# Altium schematic symbol library Capacitors.SchLib: 32 symbols
Pins are listed as number, name and electrical type; pins without a type are passive.

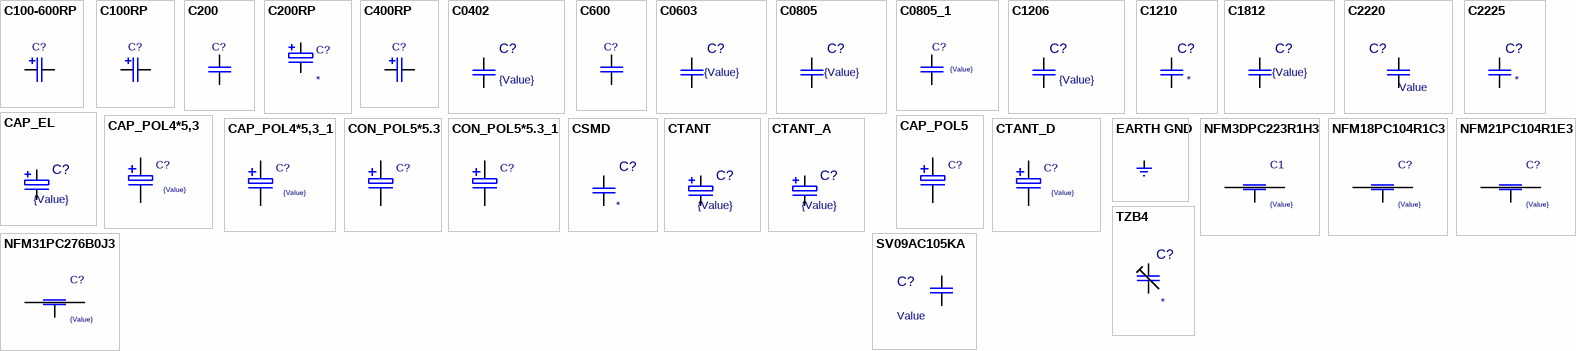
[diagram p0: symbols C100-600RP to TZB4]

## C100-600RP
designator C?  (value not drawn)
C100-600RP; Value: *
footprint C100-600RP_C100RP-1
footprint C100-600RP_C200RP
footprint C100-600RP_C300RP
footprint C100-600RP_C400RP
footprint C100-600RP_C500RP
footprint C100-600RP_C600RP
footprint C100-600RP_Primary
pins: 1, 2

## C100RP
designator C?  (value not drawn)
C100RP; PDIF_TY: 11213; Value: *
footprint C100RP_C100RP-1
footprint C100RP_Primary
pins: 1 I/OA, 2 I/OB

## C200
designator C?  (value not drawn)
C200; Value: *
footprint C200
pins: 1, 2

## C200RP
designator C?
Capacitor; Part Field 1: *; Value: *
footprint C200RP_Primary
footprint C200RP_R250
pins: 1, 2

## C400RP
designator C?  (value not drawn)
C400RP; Value: *
footprint C400RP
pins: 1, 2

## C0402
designator C?  value {Value}  (hidden comment: *)
footprint C0402
footprint C0402_V2
pins: 1, 2

## C600
designator C?  (value not drawn)
C600; Value: *
footprint C600_C400
footprint C600_Primary
pins: 1, 2

## C0603
designator C?  value {Value}  (hidden comment: *)
C0603; Voltage: *
footprint C0603
signal-integrity model capasitor (Model Description)
footprint C0603L
footprint C0603L_V2
pins: 1, 2

## C0805
designator C?  value {Value}  (hidden comment: *)
C0805; Voltage: *
footprint C0805
signal-integrity model capasitor (Model Description)
footprint C0805L
footprint C0805L_V2
pins: 1, 2

## C0805_1
designator C?  value {Value}  (hidden comment: *)
C0805_1
footprint C0805
pins: 1, 2

## C1206
designator C?  value {Value}  (hidden comment: *)
C1206
footprint C1206
pins: 1, 2

## C1210
designator C?
C1210; Part Field 1: 1210; Value: *
footprint C1210
pins: 1, 2

## C1812
designator C?  value {Value}  (hidden comment: *)
C1812; Voltage: *
footprint C1812
signal-integrity model capasitor (Model Description)
pins: 1, 2

## C2220
designator C?  (value not drawn)
Value: Value
footprint C2220
pins: 1, 2

## C2225
designator C?
C2225; Part Field 1: C2225; Value: *
footprint C2225
pins: 1, 2

## CAP_EL
designator C?  value {Value}  (hidden comment: *)
CAP_EL; Part Field 1: *; Part Field 2: *
footprint CAP_EL_16_32_HR
footprint CAP_EL_10_25_HR
footprint CAP_EL_10_20_HR
footprint CAP_EL_10_10_SMD
pins: 1, 2

## CAP_POL4*5,3
designator C?  value {Value}  (hidden comment: *)
CAP_POL4*5,3
footprint KVE4.3/5.3
pins: 1, 2

## CAP_POL4*5,3_1
designator C?  value {Value}  (hidden comment: *)
CAP_POL4*5,3_1
footprint KVE4.3/5.3
pins: 1, 2

## CAP_POL5
designator C?  (value not drawn)
CAP_POL5; Value: *
footprint KVE5/5.3_KVE4/5.3
footprint KVE5/5.3_Primary
pins: 1, 2

## CON_POL5*5.3
designator C?  (value not drawn)
CON_POL5*5.3; Value: *
footprint KVE5/5.3_KVE4/5.3
footprint KVE5/5.3_Primary
pins: 1, 2

## CON_POL5*5.3_1
designator C?  (value not drawn)
CON_POL5*5.3_1; Value: *
footprint KVE5/5.3_KVE4/5.3
footprint KVE5/5.3_Primary
pins: 1, 2

## CSMD
designator C?
C0603; Voltage: *; Part Field 1: *; Part Field 2: *; Value: *
footprint C0603
signal-integrity model capasitor (Model Description)
footprint C0805
footprint C0805L
footprint C0603L
footprint C0603L_V2
footprint C0805L_V2
footprint C1206
footprint C1210
footprint C1812
footprint C2220
footprint C2225
pins: 1, 2

## CTANT
designator C?  value {Value}  (hidden comment: *)
CTANT; Part Field 1: *; Part Field 2: *
footprint C_A_POL_CTANT_A(Primary)
footprint C_D_POL
footprint C_B_POL
footprint C_C_POL
footprint C_R_POL
pins: N, P

## CTANT_A
designator C?  value {Value}  (hidden comment: *)
CTANT_A
footprint C_A_POL_CTANT_A(Primary)
pins: N, P

## CTANT_D
designator C?  value {Value}  (hidden comment: *)
CTANT_D
footprint C_D_POL
pins: 1, 2

## EARTH GND
designator PWR?  (value not drawn)
EARTH GND; Value: *
pins: 1 EARTH_GND (power)

## NFM3DPC223R1H3
designator C1  value {Value}  (hidden comment: *)
NFM3DPC223R1H3
footprint C3T1206
pins: 1, 2, 3

## NFM18PC104R1C3
designator C?  value {Value}  (hidden comment: *)
NFM18PC104R1C3
footprint C3T0603
pins: 1, 2, 3

## NFM21PC104R1E3
designator C?  value {Value}  (hidden comment: *)
NFM21PC104R1E3
footprint C3T0805
pins: 1, 2, 3

## NFM31PC276B0J3
designator C?  value {Value}  (hidden comment: *)
NFM31PC276B0J3
footprint C3T1206
pins: 1, 2, 3

## SV09AC105KA
designator C?  (value not drawn)
Value: Value
footprint SV09
pins: 1, 2

## TZB4
designator C?
footprint TZB4
pins: 1, 2